# Altium integrated library THB001P.IntLib: 1 symbol
Pins are listed as number, name and electrical type; pins without a type are passive.

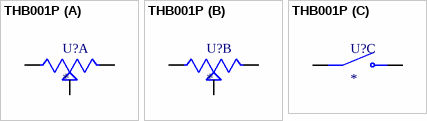
[diagram p0: symbol THB001P]

## THB001P
designator U?
Multi-Directional Thumbstick, 2 Axis, Center Momentary Switch, 12VDC, THB Series | C&K THB001P; SnapEDA_Link: https://www.snapeda.com/parts/THB001P/C%2526K/view-part/?ref=snap; Package: None; Value: *; MF: C&K; MP: THB001P; Check_prices: https://www.snapeda.com/parts/THB001P/C%2526K/view-part/?ref=eda
footprint CNK_THB001P
part A pins: VR1_1, VR1_2, VR1_3
part B pins: VR2_1, VR2_2, VR2_3
part C pins: A NO, B NO, C COM, D COM